# EAGLE library part LCD-JHD12864 (library SparkFun-Displays)
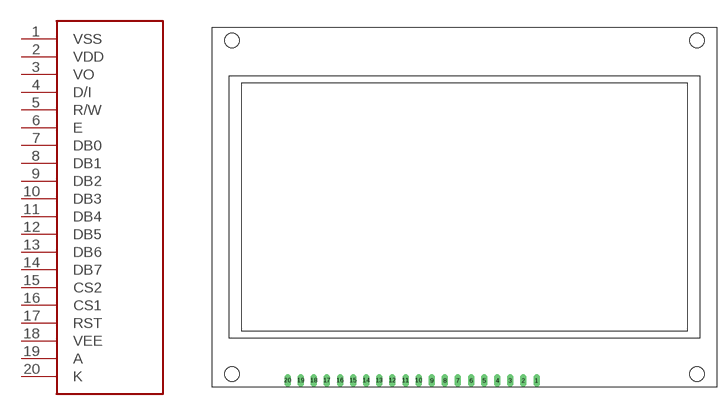
[diagram p10: symbol with the pads of LCD-JHD12864; footprint LCD-JHD12864]

Designator prefix -

## LCD-JHD12864  [LCD-JHD12864]
1  VSS  pwr
2  VDD  pwr
3  VO
4  D/I  in
5  R/W  in
6  E  in
7  DB0
8  DB1
9  DB2
10  DB3
11  DB4
12  DB5
13  DB6
14  DB7
15  CS2  in
16  CS1  in
17  RST  in
18  VEE
19  A  pwr
20  K  pwr

## Footprint LCD-JHD12864 (pad centres in mm)
drill 0.8 long: 1 13.97,-33.655; 2 11.43,-33.655; 3 8.89,-33.655; 4 6.35,-33.655; 5 3.81,-33.655; 6 1.27,-33.655; 7 -1.27,-33.655; 8 -3.81,-33.655; 9 -6.35,-33.655; 10 -8.89,-33.655; 11 -11.43,-33.655; 12 -13.97,-33.655; 13 -16.51,-33.655; 14 -19.05,-33.655; 15 -21.59,-33.655; 16 -24.13,-33.655; 17 -26.67,-33.655; 18 -29.21,-33.655; 19 -31.75,-33.655; 20 -34.29,-33.655
hole 2.8 at -45.085,-32.385
hole 2.8 at 45.085,-32.385
hole 2.8 at 45.085,32.385
hole 2.8 at -45.085,32.385